# Altium footprint library Miscellaneous Devices LC.PcbLib: 559 footprints (part 18 of 35)
Each footprint in its own frame and in the unit in brackets; x right, y up, seen from the top. Pads: shape width x height; smd on the part's side, far side on the other; paste and mask are expansions set on the pad; w line width, h text height; cw(c..) or ccw(c..) is an arc to the next point about the centre after c.
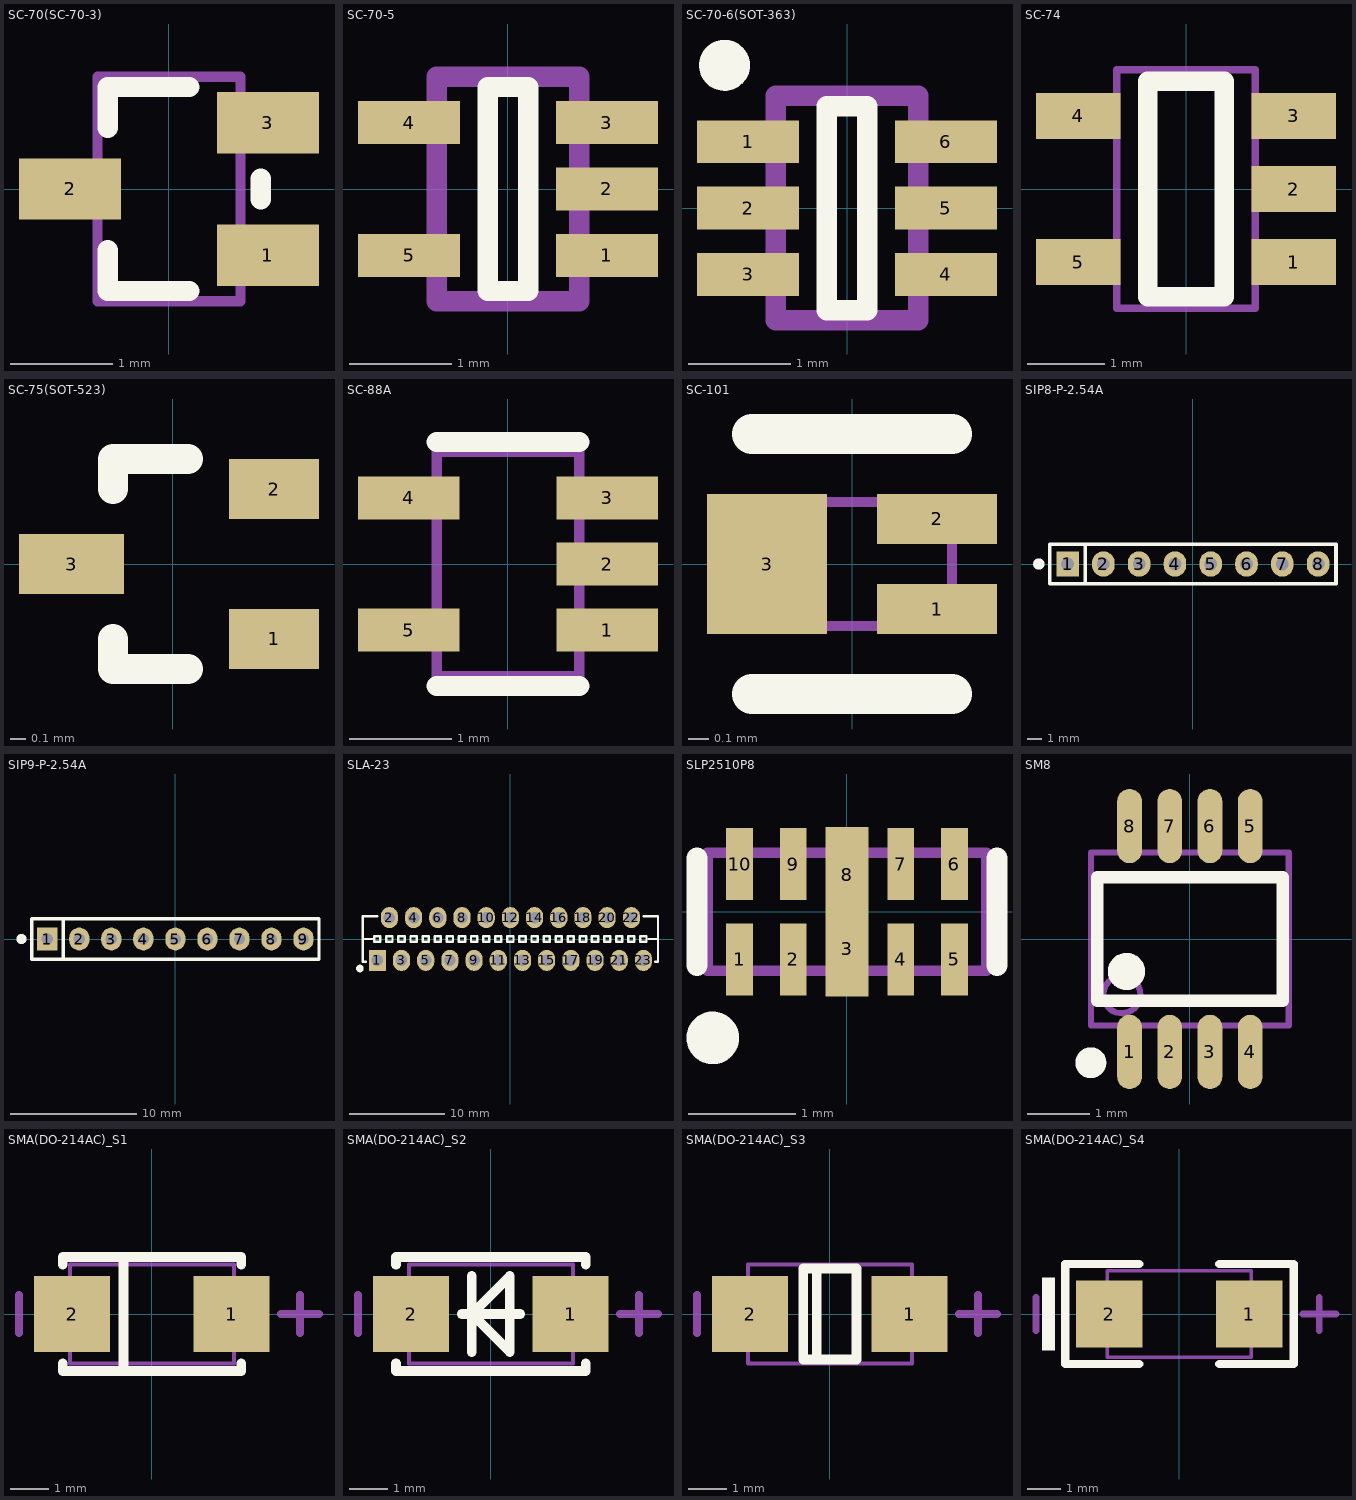
[diagram p17: the footprints below, top view; thin cyan lines are the x and y axes]

## SC-70(SC-70-3) [mm]
pads (3):
  rect 1x0.6 smd: 1(0.97,-0.65) 2(-0.97,0) 3(0.97,0.65)
Top Overlay:
  lines w0.2: -0.6,-0.6 -0.6,-1 0.2,-1 ; -0.6,0.6 -0.6,1 0.2,1 ; 0.9,-0.1 0.9,0.1
Mechanical 13:
  lines w0.1: -0.7,-1.1 0.7,-1.1 0.7,1.1 -0.7,1.1 -0.7,-1.1
3D body "User Library-SOT323 (SC70-3)-1.STEP": height 1.1, standoff 0, extent -1.123,-1.1 1.122,1.1

## SC-70-5 [mm]
pads (5):
  rect 1x0.42 smd mask+0.051: 1(0.97,-0.65) 2(0.97,0) 3(0.97,0.65) 4(-0.97,0.65) 5(-0.97,-0.65)
Top Overlay:
  lines w0.2: -0.2,-1 -0.2,1 0.2,1 0.2,-1 -0.2,-1
Mechanical 13:
  lines w0.2: -0.7,-1.1 0.7,-1.1 0.7,1.1 -0.7,1.1 -0.7,-1.1
3D body "User Library-SOT353-1.STEP": height 1.1, standoff 0, extent -1.2,-1.1 1.2,1.1

## SC-70-6(SOT-363) [mm]
pads (6):
  rect 1x0.42 smd mask+0.051: 1(-0.97,0.65) 2(-0.97,0) 3(-0.97,-0.65) 4(0.97,-0.65) 5(0.97,0) 6(0.97,0.65)
Top Overlay:
  circle w0.25: c-1.2,1.4 r0.125
  lines w0.2: -0.2,-1 -0.2,1 0.2,1 0.2,-1 -0.2,-1
Mechanical 13:
  lines w0.2: -0.7,-1.1 0.7,-1.1 0.7,1.1 -0.7,1.1 -0.7,-1.1
3D body "User Library-SOT363-2.STEP": height 1.1, standoff 0, extent -1.2,-1.1 1.2,1.1

## SC-74 [mm] "SC-74(A)"
pads (5):
  rect 1.1x0.6 smd: 1(1.4,-0.95) 2(1.4,0) 3(1.4,0.95) 4(-1.4,0.95) 5(-1.4,-0.95)
Top Overlay:
  lines w0.254: -0.5,-1.4 0.5,-1.4 0.5,1.4 -0.5,1.4 -0.5,-1.4
Mechanical 13:
  lines w0.1: -0.9,-1.55 -0.9,1.55 0.9,1.55 0.9,-1.55 -0.9,-1.55

## SC-75(SOT-523) [mm]
pads (3):
  rect 0.6x0.4 smd: 1(0.675,-0.5) 2(0.675,0.5)
  rect 0.7x0.4 smd: 3(-0.675,0)
Top Overlay:
  lines w0.2: -0.4,-0.5 -0.4,-0.7 0.1,-0.7 ; -0.4,0.5 -0.4,0.7 0.1,0.7
3D body "User Library-SOT-523.STEP": height 0.8, standoff 0, extent -0.825,-0.8 0.775,0.8

## SC-88A [mm]
pads (5):
  rect 1x0.42 smd mask+0.051: 1(0.975,-0.65) 2(0.975,0) 3(0.975,0.65) 4(-0.975,0.65) 5(-0.975,-0.65)
Top Overlay:
  lines w0.2: -0.7,-1.2 0.7,-1.2 ; -0.7,1.2 0.7,1.2
Mechanical 13:
  lines w0.1: -0.7,-1.1 -0.7,1.1 0.7,1.1 0.7,-1.1 -0.7,-1.1

## SC-101 [mm]
pads (3):
  rect 0.6x0.25 smd mask+0.051: 1(0.425,-0.225) 2(0.425,0.225)
  rect 0.6x0.7 smd mask+0.051: 3(-0.425,0)
Top Overlay:
  lines w0.2: -0.5,-0.65 0.5,-0.65 ; -0.5,0.65 0.5,0.65
Mechanical 13:
  lines w0.051: -0.5,-0.31 -0.5,0.31 0.5,0.31 0.5,-0.31 -0.5,-0.31

## SIP8-P-2.54A [mm]
pads (8):
  rect 1.6x1.8 hole 0.9: 1(-8.89,0)
  oval 1.6x1.8 hole 0.9: 2(-6.35,0) 3(-3.81,0) 4(-1.27,0) 5(1.27,0) 6(3.81,0) 7(6.35,0) 8(8.89,0)
Top Overlay:
  circle w0.4: c-10.93,0 r0.2
  lines w0.254: -7.62,-1.4 -7.62,1.4 ; -10.16,-1.4 -10.16,1.4 10.16,1.4 10.16,-1.4 -10.16,-1.4

## SIP9-P-2.54A [mm]
pads (9):
  rect 1.6x1.8 hole 0.9: 1(-10.16,0)
  oval 1.6x1.8 hole 0.9: 2(-7.62,0) 3(-5.08,0) 4(-2.54,0) 5(0,0) 6(2.54,0) 7(5.08,0) 8(7.62,0) 9(10.16,0)
Top Overlay:
  circle w0.4: c-12.2,0 r0.2
  lines w0.254: -8.89,-1.4 -8.89,1.4 ; -11.39,-1.6 11.39,-1.6 11.39,1.6 -11.39,1.6 -11.39,-1.6

## SLA-23 [mm]
pads (23):
  rect 1.8x2.2 hole 1.2: 1(-13.97,-2.25)
  oval 1.8x2.2 hole 1.2: 2(-12.7,2.25) 3(-11.43,-2.25) 4(-10.16,2.25) 5(-8.89,-2.25) 6(-7.62,2.25) 7(-6.35,-2.25) 8(-5.08,2.25) 9(-3.81,-2.25) 10(-2.54,2.25) 11(-1.27,-2.25) 12(0,2.25) 13(1.27,-2.25) 14(2.54,2.25) 15(3.81,-2.25) 16(5.08,2.25) 17(6.35,-2.25) 18(7.62,2.25) 19(8.89,-2.25) 20(10.16,2.25) 21(11.43,-2.25) 22(12.7,2.25) 23(13.97,-2.25)
Top Overlay:
  circle w0.4: c-15.8,-3.1 r0.2
  lines w0.254: -15.5,0 -14.5,0 ; -15.2,-2.4 -15.5,-2.4 -15.5,2.4 -14,2.4 ; 14,2.4 15.5,2.4 15.5,-2.4 15.2,-2.4 ; 14.5,0 15.5,0 ; -14.295,-0.275 -14.295,0.275 -13.645,0.275 -13.645,-0.275 -14.295,-0.275 ; -13.025,-0.275 -12.375,-0.275 -12.375,0.275 -13.025,0.275 -13.025,-0.275 ; -11.755,-0.275 -11.755,0.275 -11.105,0.275 -11.105,-0.275 -11.755,-0.275 ; -10.485,-0.275 -9.835,-0.275 -9.835,0.275 -10.485,0.275 -10.485,-0.275 ; -9.215,-0.275 -9.215,0.275 -8.565,0.275 -8.565,-0.275 -9.215,-0.275 ; -7.945,-0.275 -7.295,-0.275 -7.295,0.275 -7.945,0.275 -7.945,-0.275 ; -6.675,-0.275 -6.675,0.275 -6.025,0.275 -6.025,-0.275 -6.675,-0.275 ; -5.405,-0.275 -4.755,-0.275 -4.755,0.275 -5.405,0.275 -5.405,-0.275 ; -4.135,-0.275 -4.135,0.275 -3.485,0.275 -3.485,-0.275 -4.135,-0.275 ; -2.865,-0.275 -2.215,-0.275 -2.215,0.275 -2.865,0.275 -2.865,-0.275 ; -1.595,-0.275 -0.945,-0.275 -0.945,0.275 -1.595,0.275 -1.595,-0.275 ; -0.325,-0.275 -0.325,0.275 0.325,0.275 0.325,-0.275 -0.325,-0.275 ; 0.945,-0.275 0.945,0.275 1.595,0.275 1.595,-0.275 0.945,-0.275 ; 2.215,-0.275 2.215,0.275 2.865,0.275 2.865,-0.275 2.215,-0.275 ; 3.485,-0.275 4.135,-0.275 4.135,0.275 3.485,0.275 3.485,-0.275 ; 4.755,-0.275 4.755,0.275 5.405,0.275 5.405,-0.275 4.755,-0.275 ; 6.025,-0.275 6.675,-0.275 6.675,0.275 6.025,0.275 6.025,-0.275 ; 7.295,-0.275 7.295,0.275 7.945,0.275 7.945,-0.275 7.295,-0.275 ; 8.565,-0.275 9.215,-0.275 9.215,0.275 8.565,0.275 8.565,-0.275 ; 9.835,-0.275 9.835,0.275 10.485,0.275 10.485,-0.275 9.835,-0.275 ; 11.105,-0.275 11.755,-0.275 11.755,0.275 11.105,0.275 11.105,-0.275 ; 12.375,-0.275 12.375,0.275 13.025,0.275 13.025,-0.275 12.375,-0.275 ; 13.645,-0.275 13.645,0.275 14.295,0.275 14.295,-0.275 13.645,-0.275

## SLP2510P8 [mm]
pads (10):
  rect 0.25x0.67 smd mask+0.051: 1(-1,-0.445) 2(-0.5,-0.445) 4(0.5,-0.445) 5(1,-0.445) 6(1,0.445) 7(0.5,0.445) 9(-0.5,0.445) 10(-1,0.445)
  rect 0.4x0.889 smd mask+0.051: 3(0,-0.343) 8(0,0.343)
Top Overlay:
  circle w0.25: c-1.25,-1.175 r0.12
  lines w0.2: -1.397,-0.5 -1.397,0.5 ; 1.397,-0.5 1.397,0.5
Mechanical 13:
  lines w0.1: -1.3,-0.55 1.3,-0.55 1.3,0.55 -1.3,0.55 -1.3,-0.55

## SM8 [mm]
pads (8):
  oval 0.4x1.2 smd mask+0.051: 1(-0.975,-1.825) 2(-0.325,-1.825) 3(0.325,-1.825) 4(0.975,-1.825) 5(0.975,1.825) 6(0.325,1.825) 7(-0.325,1.825) 8(-0.975,1.825)
Top Overlay:
  circle w0.25: c-1.6,-2 r0.125
  circle w0.3: c-1.025,-0.525 r0.15
  lines w0.2: -1.5,-1 -1.5,1 1.5,1 1.5,-1 -1.5,-1
Mechanical 13:
  circle w0.1: c-1.1,-0.9 r0.3
  lines w0.1: -1.6,-1.4 1.6,-1.4 1.6,1.4 -1.6,1.4 -1.6,-1.4

## SMA(DO-214AC)_S1 [mm]
pads (2):
  rect 2x2 smd: 1(2.1,0) 2(-2.1,0)
Top Overlay:
  lines w0.254: -2.35,-1.3 -2.35,-1.5 2.35,-1.5 2.35,-1.3 ; -2.35,1.3 -2.35,1.5 2.35,1.5 2.35,1.3 ; -0.75,-1.5 -0.75,1.5
Mechanical 13:
  lines w0.1: -2.16,-1.3 -2.16,1.3 2.16,1.3 2.16,-1.3 -2.16,-1.3
Mechanical 15:
  lines w0.203: -3.5,-0.5 -3.5,0.5 ; 3.4,0 4.4,0 ; 3.9,-0.5 3.9,0.5

## SMA(DO-214AC)_S2 [mm]
pads (2):
  rect 2x2 smd: 1(2.1,0) 2(-2.1,0)
Top Overlay:
  lines w0.254: -2.5,-1.3 -2.5,-1.5 2.5,-1.5 2.5,-1.3 ; -2.5,1.3 -2.5,1.5 2.5,1.5 2.5,1.3 ; -0.77,0 0.77,0 ; -0.5,-1 -0.5,1 ; -0.5,0 0.5,-1 0.5,1 -0.5,0
Mechanical 13:
  lines w0.1: -2.16,-1.3 2.16,-1.3 2.16,1.3 -2.16,1.3 -2.16,-1.3
Mechanical 15:
  lines w0.203: -3.5,-0.5 -3.5,0.5 ; 3.4,0 4.4,0 ; 3.9,-0.5 3.9,0.5

## SMA(DO-214AC)_S3 [mm]
pads (2):
  rect 2x2 smd: 1(2.1,0) 2(-2.1,0)
Top Overlay:
  lines w0.254: -0.35,-1.2 -0.35,1.2 ; -0.7,-1.2 0.7,-1.2 0.7,1.2 -0.7,1.2 -0.7,-1.2
Mechanical 13:
  lines w0.1: -2.16,-1.3 2.16,-1.3 2.16,1.3 -2.16,1.3 -2.16,-1.3
Mechanical 15:
  lines w0.203: -3.5,-0.5 -3.5,0.5 ; 3.4,0 4.4,0 ; 3.9,-0.5 3.9,0.5

## SMA(DO-214AC)_S4 [mm]
pads (2):
  rect 2x2 smd: 1(2.1,0) 2(-2.1,0)
Top Overlay:
  rectangle: -4.125,-1.1 -3.725,1.1
  lines w0.254: -3.43,1.5 -1.2,1.5 ; -3.429,1.5 -3.429,-1.5 -1.199,-1.5 ; 1.201,-1.5 3.431,-1.5 3.431,1.5 1.201,1.5
Mechanical 13:
  lines w0.1: -2.16,-1.3 -2.16,1.3 2.16,1.3 2.16,-1.3 -2.16,-1.3
Mechanical 15:
  lines w0.203: -4.3,-0.5 -4.3,0.5 ; 3.7,0 4.7,0 ; 4.2,-0.5 4.2,0.5